# Altium footprint library SON50P300X100_HS-11N.PcbLib: 1 footprints
Each footprint in its own frame and in the unit in brackets; x right, y up, seen from the top. Pads: shape width x height; smd on the part's side, far side on the other; paste and mask are expansions set on the pad; w line width, h text height; cw(c..) or ccw(c..) is an arc to the next point about the centre after c.
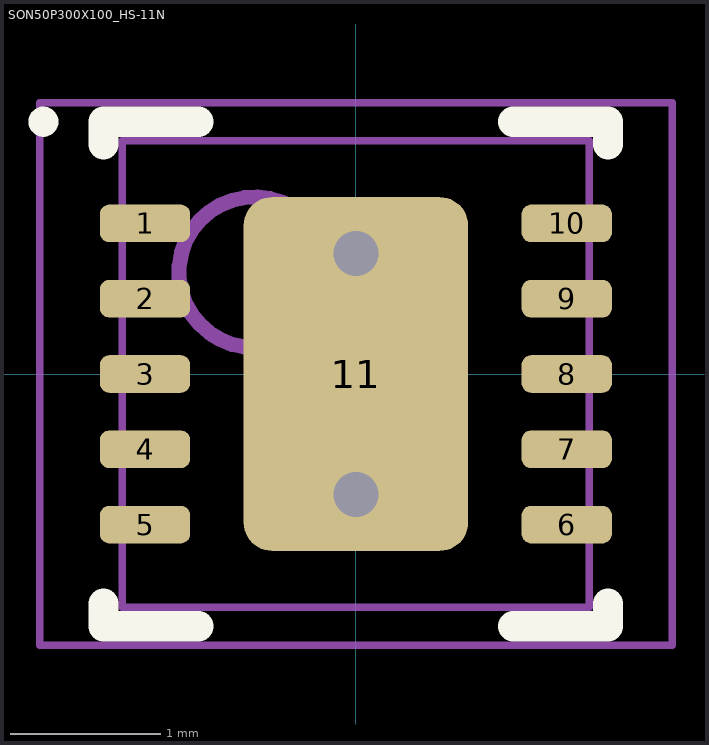
[diagram p0: the footprint, top view; thin cyan lines are the x and y axes]

## SON50P300X100_HS-11N [mm] "SON, 10-Leads, Body 3.00x3.00mm, Pitch 0.50mm, Thermal Pad 2.35x1.49mm, IPC Medium Density"
height 1
pads (11):
  rrect50% 0.6x0.25 smd: 1(-1.4,1) 2(-1.4,0.5) 3(-1.4,0) 4(-1.4,-0.5) 5(-1.4,-1) 6(1.4,-1) 7(1.4,-0.5) 8(1.4,0) 9(1.4,0.5) 10(1.4,1)
  rrect25% 1.49x2.35 smd: 11(0,0)
via 0,-0.8 diameter 0.6 hole 0.3
via 0,0.8 diameter 0.6 hole 0.3
Top Overlay:
  circle w0.1: c-2.075,1.675 r0.05
  lines w0.2: -1.675,-1.525 -1.675,-1.675 -1.045,-1.675 ; -1.675,1.525 -1.675,1.675 -1.045,1.675 ; 1.045,-1.675 1.675,-1.675 1.675,-1.525 ; 1.045,1.675 1.675,1.675 1.675,1.525
Top Assembly:
  circle w0.1: c-0.675,0.675 r0.5
  lines w0.05: -1.55,-1.55 1.55,-1.55 1.55,1.55 -1.55,1.55 -1.55,-1.55
Top Courtyard:
  lines w0.05: -2.1,-1.8 2.1,-1.8 2.1,1.8 -2.1,1.8 -2.1,-1.8
  lines w0.1: -0.5,0 0.5,0 ; 0,-0.5 0,0.5
3D body "SON50P300X100_HS-11N.step": height 1, standoff 0, extent -1.6,-1.55 1.6,1.55